# EAGLE library part TACTLE_LED (library ERIC)
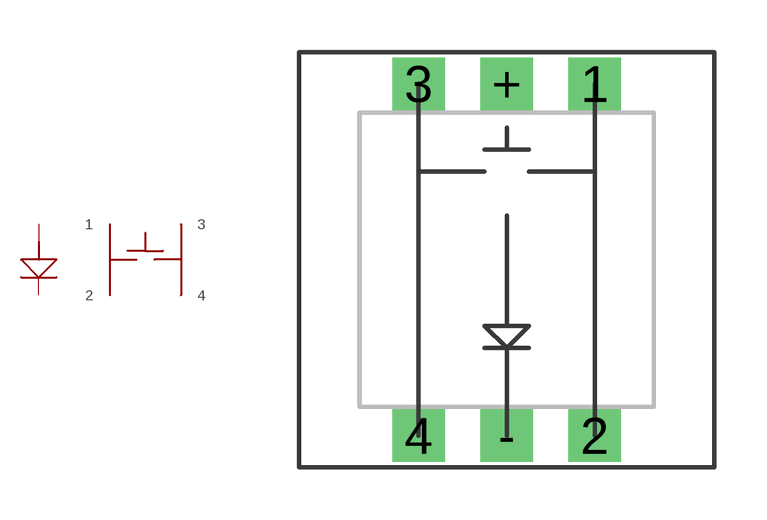
[diagram p35: symbol with the pads of TACTILE_LED_NKK_JB; footprint TACTILE_LED_NKK_JB]

Designator prefix -

## TACTLE_LEDNKK_JB  [TACTILE_LED_NKK_JB]
1  1  pas
2  2
3  3
4  4
+  +
-  -

## Footprint TACTILE_LED_NKK_JB (pad centres in mm)
NKK JB series SPST NO switch with built in LED Such as the JB15LPC-JC
drill 1 square: 1 2.54,5.08; 2 2.54,-5.08; 3 -2.54,5.08; 4 -2.54,-5.08; + 0,5.08; - 0,-5.08